# Altium schematic symbol library ICs-uC.SchLib: 14 symbols
Pins are listed as number, name and electrical type; pins without a type are passive.

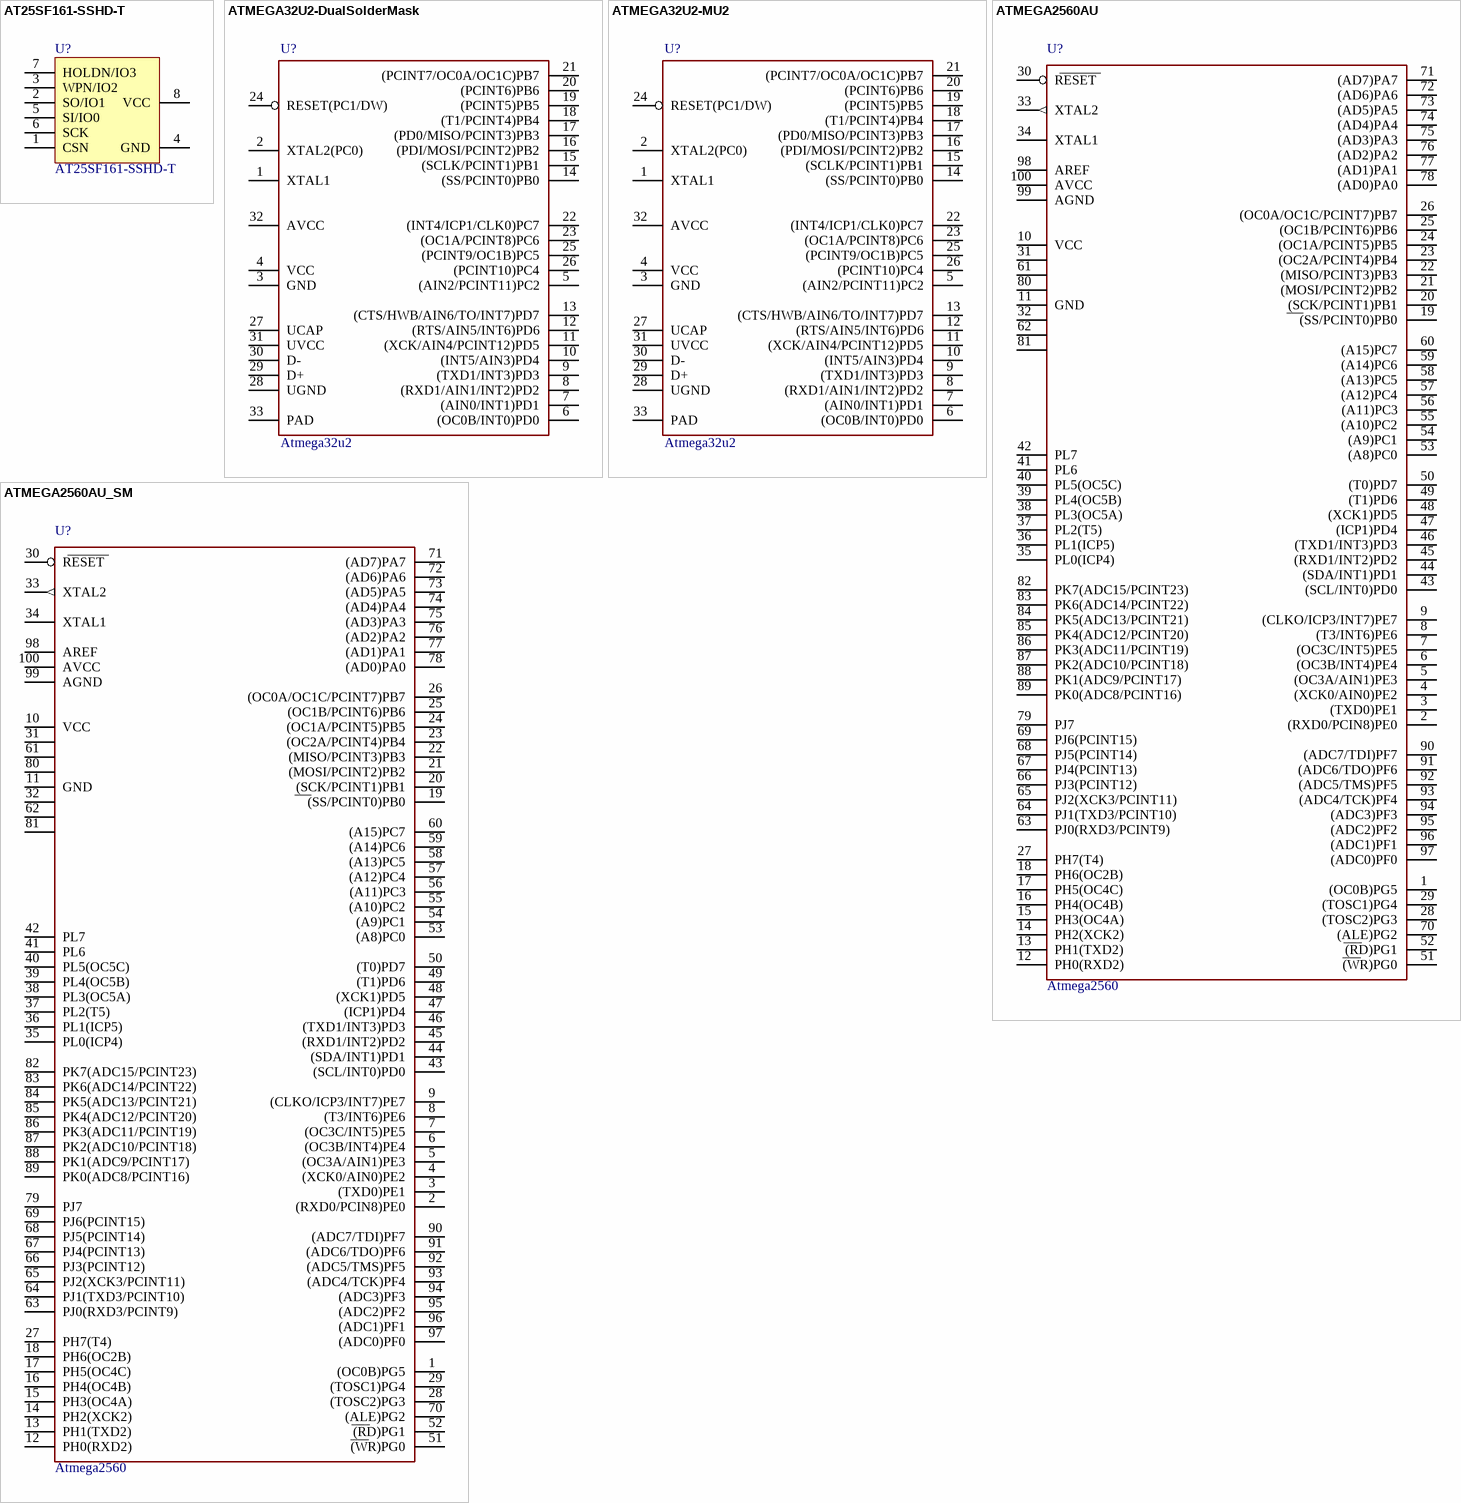
[diagram p0: symbols AT25SF161-SSHD-T to ATMEGA2560AU_SM]

## AT25SF161-SSHD-T
designator U?
IC FLASH 16M SPI 104MHZ 8SOIC; MANUFACTURER: Adesto; TOLERANCE: -NA-; VALUE: 16Mb; EE_SPEC: 3.3V; MANUFACTURER #: AT25SF161-SSHD-T; PART DESCRIPTION: IC FLASH 16M SPI 104MHZ 8SOIC
footprint S25FL216K0PMFI041 (SOIC, 8-Leads, Body 4.90x3.90mm, Pitch 1.27mm, IPC Medium Density)
pins: 1 CSN, 2 SO/IO1, 3 WPN/IO2, 4 GND, 5 SI/IO0, 6 SCK, 7 HOLDN/IO3, 8 VCC

## ATMEGA32U2-DualSolderMask
designator U?, comment Atmega32u2
Manufacturer: Microchip; MANUFACTURER #: ATMEGA32U2-MUR; Part Description: AVR AVR® ATmega Microcontroller IC 8-Bit 16MHz 32KB (16K x 16) FLASH 32-VQFN (5x5); EE_SPEC: 5V 32KB 1KB; Tolerance: NA; DISTRIBUTOR #: ATMEGA32U2-MURTR-ND; DISTRIBUTOR: Digi-Key; PART: ATMEGA32U2; VALUE: ATMEGA32U2
footprint QFN32_DualSolderMask
pins: 1 XTAL1, 2 XTAL2(PC0), 3 GND (power), 4 VCC (power), 5 (AIN2/PCINT11)PC2, 6 (OC0B/INT0)PD0, 7 (AIN0/INT1)PD1, 8 (RXD1/AIN1/INT2)PD2, 9 (TXD1/INT3)PD3, 10 (INT5/AIN3)PD4, 11 (XCK/AIN4/PCINT12)PD5, 12 (RTS/AIN5/INT6)PD6, 13 (CTS/HWB/AIN6/TO/INT7)PD7, 14 (SS/PCINT0)PB0, 15 (SCLK/PCINT1)PB1, 16 (PDI/MOSI/PCINT2)PB2, 17 (PD0/MISO/PCINT3)PB3, 18 (T1/PCINT4)PB4, 19 (PCINT5)PB5, 20 (PCINT6)PB6, 21 (PCINT7/OC0A/OC1C)PB7, 22 (INT4/ICP1/CLK0)PC7, 23 (OC1A/PCINT8)PC6, 24 RESET(PC1/DW), 25 (PCINT9/OC1B)PC5, 26 (PCINT10)PC4, 27 UCAP, 28 UGND (power), 29 D+, 30 D-, 31 UVCC (power), 32 AVCC (power), 33 PAD (power)

## ATMEGA32U2-MU2
designator U?, comment Atmega32u2
Manufacturer: Microchip; MANUFACTURER #: ATMEGA32U2-MUR; Part Description: AVR AVR® ATmega Microcontroller IC 8-Bit 16MHz 32KB (16K x 16) FLASH 32-VQFN (5x5); EE_SPEC: 5V 32KB 1KB; Tolerance: NA; DISTRIBUTOR #: ATMEGA32U2-MURTR-ND; DISTRIBUTOR: Digi-Key; PART: ATMEGA32U2; VALUE: ATMEGA32U2
footprint QFN32_050050
pins: 1 XTAL1, 2 XTAL2(PC0), 3 GND (power), 4 VCC (power), 5 (AIN2/PCINT11)PC2, 6 (OC0B/INT0)PD0, 7 (AIN0/INT1)PD1, 8 (RXD1/AIN1/INT2)PD2, 9 (TXD1/INT3)PD3, 10 (INT5/AIN3)PD4, 11 (XCK/AIN4/PCINT12)PD5, 12 (RTS/AIN5/INT6)PD6, 13 (CTS/HWB/AIN6/TO/INT7)PD7, 14 (SS/PCINT0)PB0, 15 (SCLK/PCINT1)PB1, 16 (PDI/MOSI/PCINT2)PB2, 17 (PD0/MISO/PCINT3)PB3, 18 (T1/PCINT4)PB4, 19 (PCINT5)PB5, 20 (PCINT6)PB6, 21 (PCINT7/OC0A/OC1C)PB7, 22 (INT4/ICP1/CLK0)PC7, 23 (OC1A/PCINT8)PC6, 24 RESET(PC1/DW), 25 (PCINT9/OC1B)PC5, 26 (PCINT10)PC4, 27 UCAP, 28 UGND (power), 29 D+, 30 D-, 31 UVCC (power), 32 AVCC (power), 33 PAD (power)

## ATMEGA2560AU
designator U?, comment Atmega2560
Manufacturer: Microchip; MANUFACTURER #: ATMEGA2560-16AUR; Part Description: AVR AVR® ATmega Microcontroller IC 8-Bit 16MHz 256KB (128K x 16) FLASH 100-TQFP (14x14); EE_SPEC: 5V 256KB 8KB 16MHz; Tolerance: NA; DISTRIBUTOR #: ATMEGA2560-16AURTR-ND; DISTRIBUTOR: Digi-Key; PART: ATMEGA2560; VALUE: ATMEGA2560
footprint TQFP100_140140_012
pins: 1 (OC0B)PG5, 2 (RXD0/PCIN8)PE0, 3 (TXD0)PE1, 4 (XCK0/AIN0)PE2, 5 (OC3A/AIN1)PE3, 6 (OC3B/INT4)PE4, 7 (OC3C/INT5)PE5, 8 (T3/INT6)PE6, 9 (CLKO/ICP3/INT7)PE7, 10 VCC (power), 11 GND (power), 12 PH0(RXD2), 13 PH1(TXD2), 14 PH2(XCK2), 15 PH3(OC4A), 16 PH4(OC4B), 17 PH5(OC4C), 18 PH6(OC2B), 19 (SS/PCINT0)PB0, 20 (SCK/PCINT1)PB1, 21 (MOSI/PCINT2)PB2, 22 (MISO/PCINT3)PB3, 23 (OC2A/PCINT4)PB4, 24 (OC1A/PCINT5)PB5, 25 (OC1B/PCINT6)PB6, 26 (OC0A/OC1C/PCINT7)PB7, 27 PH7(T4), 28 (TOSC2)PG3, 29 (TOSC1)PG4, 30 RESET, 31 VCC1 (power), 32 GND1 (power), 33 XTAL2 (out), 34 XTAL1, 35 PL0(ICP4), 36 PL1(ICP5), 37 PL2(T5), 38 PL3(OC5A), 39 PL4(OC5B), 40 PL5(OC5C), 41 PL6, 42 PL7, 43 (SCL/INT0)PD0, 44 (SDA/INT1)PD1, 45 (RXD1/INT2)PD2, 46 (TXD1/INT3)PD3, 47 (ICP1)PD4, 48 (XCK1)PD5, 49 (T1)PD6, 50 (T0)PD7, 51 (WR)PG0, 52 (RD)PG1, 53 (A8)PC0, 54 (A9)PC1, 55 (A10)PC2, 56 (A11)PC3, 57 (A12)PC4, 58 (A13)PC5, 59 (A14)PC6, 60 (A15)PC7, 61 VCC2 (power), 62 GND2 (power), 63 PJ0(RXD3/PCINT9), 64 PJ1(TXD3/PCINT10), 65 PJ2(XCK3/PCINT11), 66 PJ3(PCINT12), 67 PJ4(PCINT13), 68 PJ5(PCINT14), 69 PJ6(PCINT15), 70 (ALE)PG2, 71 (AD7)PA7, 72 (AD6)PA6, 73 (AD5)PA5, 74 (AD4)PA4, 75 (AD3)PA3, 76 (AD2)PA2, 77 (AD1)PA1, 78 (AD0)PA0, 79 PJ7, 80 VCC3 (power), 81 GND3 (power), 82 PK7(ADC15/PCINT23), 83 PK6(ADC14/PCINT22), 84 PK5(ADC13/PCINT21), 85 PK4(ADC12/PCINT20), 86 PK3(ADC11/PCINT19), 87 PK2(ADC10/PCINT18), 88 PK1(ADC9/PCINT17), 89 PK0(ADC8/PCINT16), 90 (ADC7/TDI)PF7, 91 (ADC6/TDO)PF6, 92 (ADC5/TMS)PF5, 93 (ADC4/TCK)PF4, 94 (ADC3)PF3, 95 (ADC2)PF2, 96 (ADC1)PF1, 97 (ADC0)PF0, 98 AREF, 99 AGND (power), 100 AVCC (power)

## ATMEGA2560AU_SM
designator U?, comment Atmega2560
Manufacturer: Microchip; MANUFACTURER #: ATMEGA2560-16AUR; Part Description: AVR AVR® ATmega Microcontroller IC 8-Bit 16MHz 256KB (128K x 16) FLASH 100-TQFP (14x14); EE_SPEC: 5V 256KB 8KB 16MHz; Tolerance: NA; DISTRIBUTOR #: ATMEGA2560-16AURTR-ND; DISTRIBUTOR: Digi-Key; PART: ATMEGA2560; VALUE: ATMEGA2560
footprint TSQFP50P1600X1600X120-100L (TSQFP, 100-Leads, Body 14.00x14.00mm, Pitch 0.50mm, IPC High Density)
pins: 1 (OC0B)PG5, 2 (RXD0/PCIN8)PE0, 3 (TXD0)PE1, 4 (XCK0/AIN0)PE2, 5 (OC3A/AIN1)PE3, 6 (OC3B/INT4)PE4, 7 (OC3C/INT5)PE5, 8 (T3/INT6)PE6, 9 (CLKO/ICP3/INT7)PE7, 10 VCC (power), 11 GND (power), 12 PH0(RXD2), 13 PH1(TXD2), 14 PH2(XCK2), 15 PH3(OC4A), 16 PH4(OC4B), 17 PH5(OC4C), 18 PH6(OC2B), 19 (SS/PCINT0)PB0, 20 (SCK/PCINT1)PB1, 21 (MOSI/PCINT2)PB2, 22 (MISO/PCINT3)PB3, 23 (OC2A/PCINT4)PB4, 24 (OC1A/PCINT5)PB5, 25 (OC1B/PCINT6)PB6, 26 (OC0A/OC1C/PCINT7)PB7, 27 PH7(T4), 28 (TOSC2)PG3, 29 (TOSC1)PG4, 30 RESET, 31 VCC1 (power), 32 GND1 (power), 33 XTAL2 (out), 34 XTAL1, 35 PL0(ICP4), 36 PL1(ICP5), 37 PL2(T5), 38 PL3(OC5A), 39 PL4(OC5B), 40 PL5(OC5C), 41 PL6, 42 PL7, 43 (SCL/INT0)PD0, 44 (SDA/INT1)PD1, 45 (RXD1/INT2)PD2, 46 (TXD1/INT3)PD3, 47 (ICP1)PD4, 48 (XCK1)PD5, 49 (T1)PD6, 50 (T0)PD7, 51 (WR)PG0, 52 (RD)PG1, 53 (A8)PC0, 54 (A9)PC1, 55 (A10)PC2, 56 (A11)PC3, 57 (A12)PC4, 58 (A13)PC5, 59 (A14)PC6, 60 (A15)PC7, 61 VCC2 (power), 62 GND2 (power), 63 PJ0(RXD3/PCINT9), 64 PJ1(TXD3/PCINT10), 65 PJ2(XCK3/PCINT11), 66 PJ3(PCINT12), 67 PJ4(PCINT13), 68 PJ5(PCINT14), 69 PJ6(PCINT15), 70 (ALE)PG2, 71 (AD7)PA7, 72 (AD6)PA6, 73 (AD5)PA5, 74 (AD4)PA4, 75 (AD3)PA3, 76 (AD2)PA2, 77 (AD1)PA1, 78 (AD0)PA0, 79 PJ7, 80 VCC3 (power), 81 GND3 (power), 82 PK7(ADC15/PCINT23), 83 PK6(ADC14/PCINT22), 84 PK5(ADC13/PCINT21), 85 PK4(ADC12/PCINT20), 86 PK3(ADC11/PCINT19), 87 PK2(ADC10/PCINT18), 88 PK1(ADC9/PCINT17), 89 PK0(ADC8/PCINT16), 90 (ADC7/TDI)PF7, 91 (ADC6/TDO)PF6, 92 (ADC5/TMS)PF5, 93 (ADC4/TCK)PF4, 94 (ADC3)PF3, 95 (ADC2)PF2, 96 (ADC1)PF1, 97 (ADC0)PF0, 98 AREF, 99 AGND (power), 100 AVCC (power)

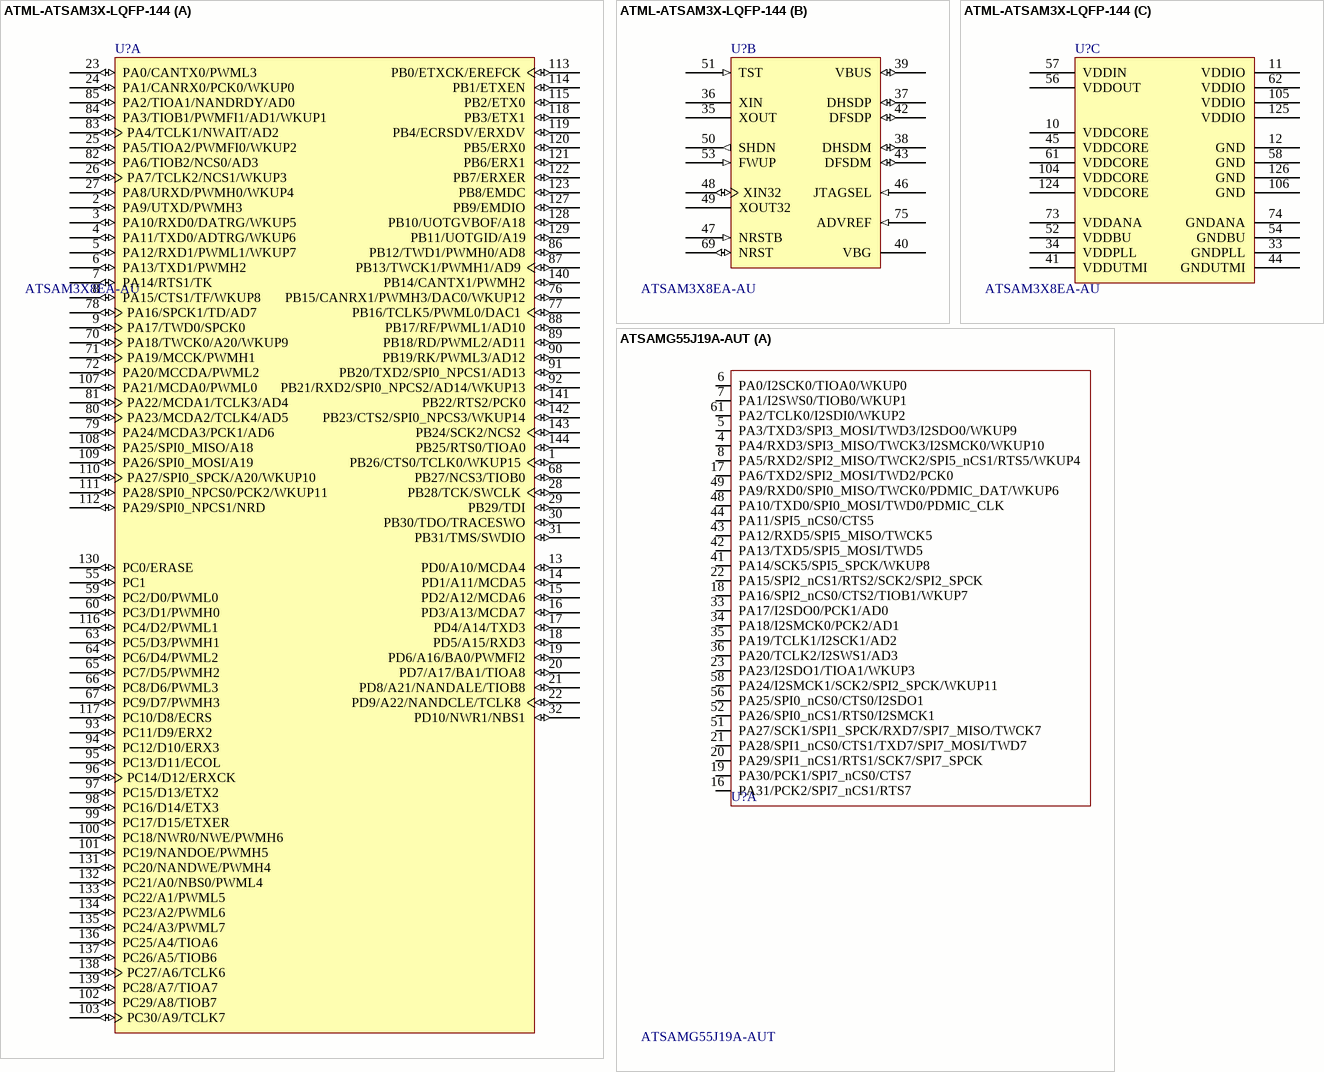
[diagram p1: symbols ATML-ATSAM3X-LQFP-144 to ATSAMG55J19A-AUT]

## ATML-ATSAM3X-LQFP-144
designator U?, comment ATSAM3X8EA-AU
Atmel; PART: IC MCU 32BIT 512KB FLASH 144LQFP; PART DESCRIPTION: ARM® Cortex®-M3 SAM3X Microcontroller IC 32-Bit 84MHz 512KB (512K x 8) FLASH 144-LQFP (20x20); TOLERANCE: -NA-; VALUE: -NA-; EE_SPEC: 3.3V; MANUFACTURER #: ATSAM3X8EA-AU; MANUFACTURER: Atmel; DISTRIBUTOR #: ATSAM3X8EA-AU-ND; DISTRIBUTOR: Digikey
footprint LQFP144_N (Thin QFP, 144-Leads, Body 20x20mm, Pitch 0.5mm, IPC Medium Density)
part A pins: 1 PB26/CTS0/TCLK0/WKUP15 (io), 2 PA9/UTXD/PWMH3 (io), 3 PA10/RXD0/DATRG/WKUP5 (io), 4 PA11/TXD0/ADTRG/WKUP6 (io), 5 PA12/RXD1/PWML1/WKUP7 (io), 6 PA13/TXD1/PWMH2 (io), 7 PA14/RTS1/TK (io), 8 PA15/CTS1/TF/WKUP8 (io), 9 PA17/TWD0/SPCK0 (io), 13 PD0/A10/MCDA4 (io), 14 PD1/A11/MCDA5 (io), 15 PD2/A12/MCDA6 (io), 16 PD3/A13/MCDA7 (io), 17 PD4/A14/TXD3 (io), 18 PD5/A15/RXD3 (io), 19 PD6/A16/BA0/PWMFI2 (io), 20 PD7/A17/BA1/TIOA8 (io), 21 PD8/A21/NANDALE/TIOB8 (io), 22 PD9/A22/NANDCLE/TCLK8 (io), 23 PA0/CANTX0/PWML3 (io), 24 PA1/CANRX0/PCK0/WKUP0 (io), 25 PA5/TIOA2/PWMFI0/WKUP2 (io), 26 PA7/TCLK2/NCS1/WKUP3 (io), 27 PA8/URXD/PWMH0/WKUP4 (io), 28 PB28/TCK/SWCLK (io), 29 PB29/TDI (io), 30 PB30/TDO/TRACESWO (io), 31 PB31/TMS/SWDIO (io), 32 PD10/NWR1/NBS1 (io), 55 PC1 (io), 59 PC2/D0/PWML0 (io), 60 PC3/D1/PWMH0 (io), 63 PC5/D3/PWMH1 (io), 64 PC6/D4/PWML2 (io), 65 PC7/D5/PWMH2 (io), 66 PC8/D6/PWML3 (io), 67 PC9/D7/PWMH3 (io), 68 PB27/NCS3/TIOB0 (io), 70 PA18/TWCK0/A20/WKUP9 (io), 71 PA19/MCCK/PWMH1 (io), 72 PA20/MCCDA/PWML2 (io), 76 PB15/CANRX1/PWMH3/DAC0/WKUP12 (io), 77 PB16/TCLK5/PWML0/DAC1 (io), 78 PA16/SPCK1/TD/AD7 (io), 79 PA24/MCDA3/PCK1/AD6 (io), 80 PA23/MCDA2/TCLK4/AD5 (io), 81 PA22/MCDA1/TCLK3/AD4 (io), 82 PA6/TIOB2/NCS0/AD3 (io), 83 PA4/TCLK1/NWAIT/AD2 (io), 84 PA3/TIOB1/PWMFI1/AD1/WKUP1 (io), 85 PA2/TIOA1/NANDRDY/AD0 (io), 86 PB12/TWD1/PWMH0/AD8 (io), 87 PB13/TWCK1/PWMH1/AD9 (io), 88 PB17/RF/PWML1/AD10 (io), 89 PB18/RD/PWML2/AD11 (io), 90 PB19/RK/PWML3/AD12 (io), 91 PB20/TXD2/SPI0_NPCS1/AD13 (io), 92 PB21/RXD2/SPI0_NPCS2/AD14/WKUP13 (io), 93 PC11/D9/ERX2 (io), 94 PC12/D10/ERX3 (io), 95 PC13/D11/ECOL (io), 96 PC14/D12/ERXCK (io), 97 PC15/D13/ETX2 (io), 98 PC16/D14/ETX3 (io), 99 PC17/D15/ETXER (io), 100 PC18/NWR0/NWE/PWMH6 (io), 101 PC19/NANDOE/PWMH5 (io), 102 PC29/A8/TIOB7 (io), 103 PC30/A9/TCLK7 (io), 107 PA21/MCDA0/PWML0 (io), 108 PA25/SPI0_MISO/A18 (io), 109 PA26/SPI0_MOSI/A19 (io), 110 PA27/SPI0_SPCK/A20/WKUP10 (io), 111 PA28/SPI0_NPCS0/PCK2/WKUP11 (io), 112 PA29/SPI0_NPCS1/NRD (io), 113 PB0/ETXCK/EREFCK (io), 114 PB1/ETXEN (io), 115 PB2/ETX0 (io), 116 PC4/D2/PWML1 (io), 117 PC10/D8/ECRS (io), 118 PB3/ETX1 (io), 119 PB4/ECRSDV/ERXDV (io), 120 PB5/ERX0 (io), 121 PB6/ERX1 (io), 122 PB7/ERXER (io), 123 PB8/EMDC (io), 127 PB9/EMDIO (io), 128 PB10/UOTGVBOF/A18 (io), 129 PB11/UOTGID/A19 (io), 130 PC0/ERASE (io), 131 PC20/NANDWE/PWMH4 (io), 132 PC21/A0/NBS0/PWML4 (io), 133 PC22/A1/PWML5 (io), 134 PC23/A2/PWML6 (io), 135 PC24/A3/PWML7 (io), 136 PC25/A4/TIOA6 (io), 137 PC26/A5/TIOB6 (io), 138 PC27/A6/TCLK6 (io), 139 PC28/A7/TIOA7 (io), 140 PB14/CANTX1/PWMH2 (io), 141 PB22/RTS2/PCK0 (io), 142 PB23/CTS2/SPI0_NPCS3/WKUP14 (io), 143 PB24/SCK2/NCS2 (io), 144 PB25/RTS0/TIOA0 (io)
part B pins: 35 XOUT "Main Oscillator Output", 36 XIN "Main Oscillator Input", 37 DHSDP (io) "USB High Speed Data +", 38 DHSDM (io) "USB High Speed Data -", 39 VBUS (io) "USB Bus Power Measurement Mini Host/Device", 40 VBG "Bias Voltage Reference", 42 DFSDP (io) "USB Full Speed Data +", 43 DFSDM (io) "USB Full Speed Data -", 46 JTAGSEL (in) "JTAG Selection", 47 NRSTB (in) "Asynchronous Microcontroller Reset", 48 XIN32 (io) "Slow Clock Oscillator Input", 49 XOUT32 "Slow Clock Oscillator Output", 50 SHDN (out) "Shut-Down Control", 51 TST (in) "Test Mode Select", 53 FWUP (in) "Force Wake-up Input", 69 NRST (io) "Microcontroller Reset", 75 ADVREF (in) "ADC and DAC Reference"
part C pins: 10 VDDCORE (power) "Core Chip Power Supply", 11 VDDIO (power) "Peripherals I/O Lines Power Supply", 12 GND (power) "Ground", 33 GNDPLL (power) "PLL A, UPLL and Oscillator Ground", 34 VDDPLL (power) "PLL A, UPLL and Oscillator Power Supply", 41 VDDUTMI (power) "USB UTMI+ Interface Power Supply", 44 GNDUTMI (power) "USB UTMI+ Interface Ground", 45 VDDCORE (power) "Core Chip Power Supply", 52 VDDBU (power) "Backup I/O Lines Power Supply", 54 GNDBU (power) "Backup Ground", 56 VDDOUT (power) "Voltage Regulator Output", 57 VDDIN (power) "Voltage Regulator, ADC and DAC Power", 58 GND (power) "Ground", 61 VDDCORE (power) "Core Chip Power Supply", 62 VDDIO (power) "Peripherals I/O Lines Power Supply", 73 VDDANA (power) "ADC and DAC Analog Power Supply", 74 GNDANA (power) "ADC and DAC Analog Ground", 104 VDDCORE (power) "Core Chip Power Supply", 105 VDDIO (power) "Peripherals I/O Lines Power Supply", 106 GND (power) "Ground", 124 VDDCORE (power) "Core Chip Power Supply", 125 VDDIO (power) "Peripherals I/O Lines Power Supply", 126 GND (power) "Ground"

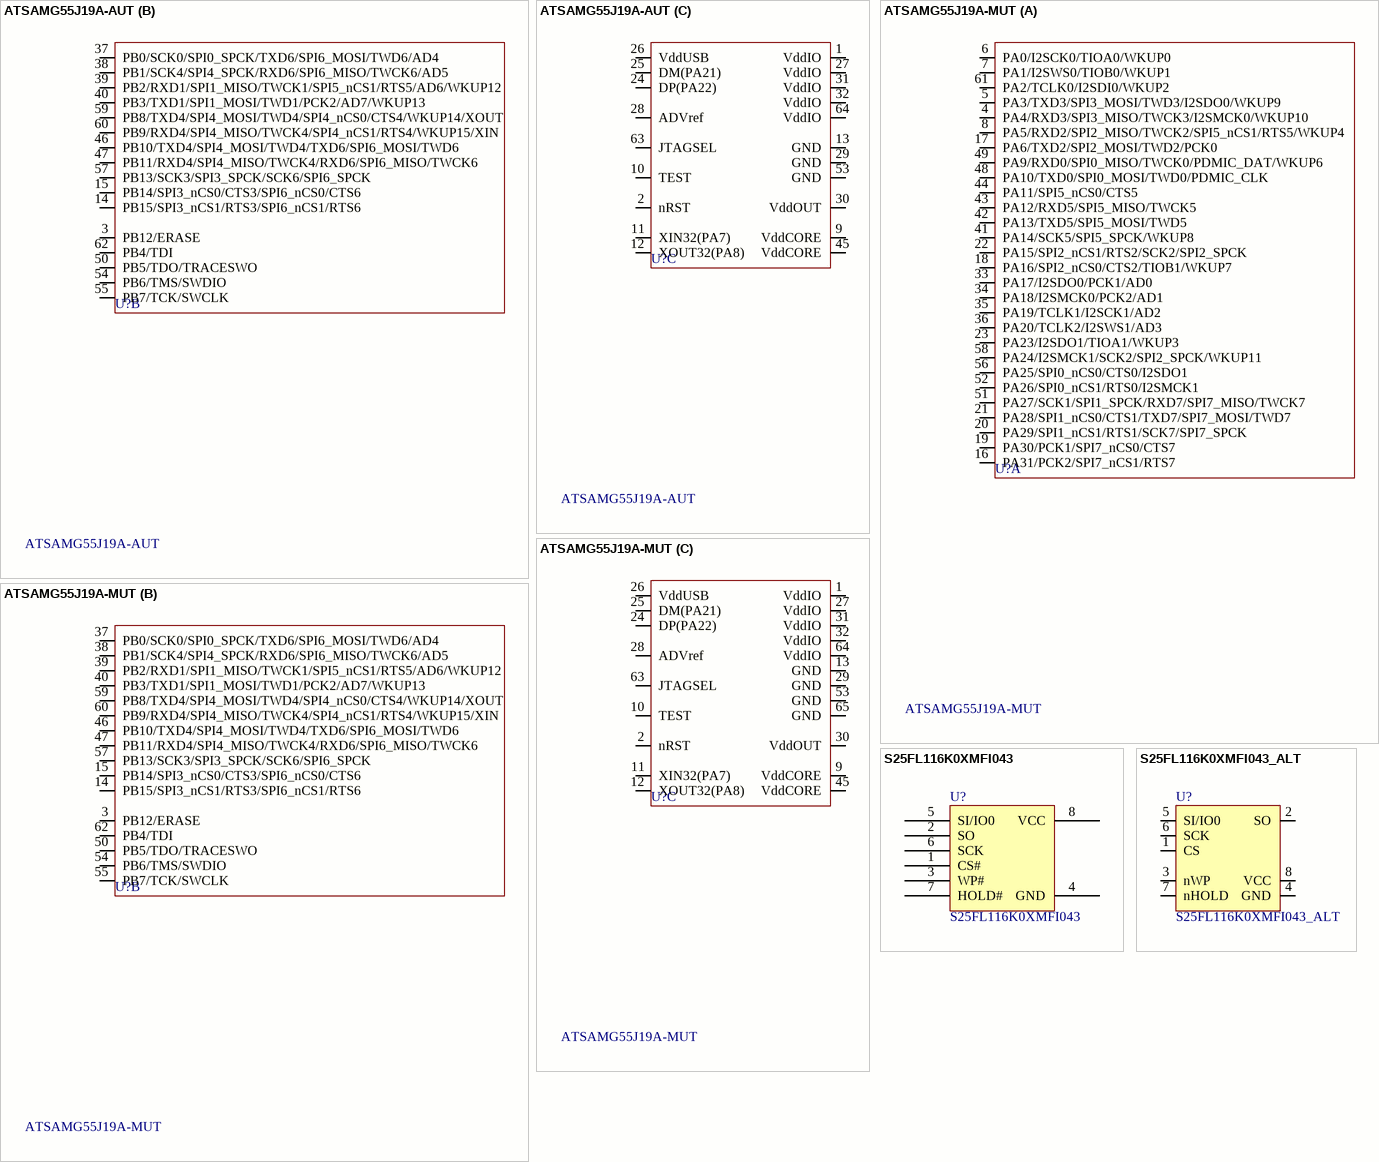
[diagram p2: symbols ATSAMG55J19A-AUT to S25FL116K0XMFI043_ALT]

## ATSAMG55J19A-AUT
designator U?
IC MCU 32BIT 512KB FLASH 64LQFP; MANUFACTURER: Atmel; PART DESCRIPTION: ARM® Cortex®-M4 SAM G55 Microcontroller IC 32-Bit 120MHz 512KB (512K x 8) FLASH; TOLERANCE: -NA-; VALUE: -NA-; EE_SPEC: 3.3V; MANUFACTURER #: ATSAMG55J19A-AUT; DISTRIBUTOR #: ATSAMG55J19A-AUTTR-ND; DISTRIBUTOR: Digikey; PART: ATSAMG55J19A-AUT
footprint LQFP64 (TSQFP, 64-Leads, Body 10.00x10.00mm, Pitch 0.50mm, IPC High Density)
part A pins: 4 PA4/RXD3/SPI3_MISO/TWCK3/I2SMCK0/WKUP10, 5 PA3/TXD3/SPI3_MOSI/TWD3/I2SDO0/WKUP9, 6 PA0/I2SCK0/TIOA0/WKUP0, 7 PA1/I2SWS0/TIOB0/WKUP1, 8 PA5/RXD2/SPI2_MISO/TWCK2/SPI5_nCS1/RTS5/WKUP4, 16 PA31/PCK2/SPI7_nCS1/RTS7, 17 PA6/TXD2/SPI2_MOSI/TWD2/PCK0, 18 PA16/SPI2_nCS0/CTS2/TIOB1/WKUP7, 19 PA30/PCK1/SPI7_nCS0/CTS7, 20 PA29/SPI1_nCS1/RTS1/SCK7/SPI7_SPCK, 21 PA28/SPI1_nCS0/CTS1/TXD7/SPI7_MOSI/TWD7, 22 PA15/SPI2_nCS1/RTS2/SCK2/SPI2_SPCK, 23 PA23/I2SDO1/TIOA1/WKUP3, 33 PA17/I2SDO0/PCK1/AD0, 34 PA18/I2SMCK0/PCK2/AD1, 35 PA19/TCLK1/I2SCK1/AD2, 36 PA20/TCLK2/I2SWS1/AD3, 41 PA14/SCK5/SPI5_SPCK/WKUP8, 42 PA13/TXD5/SPI5_MOSI/TWD5, 43 PA12/RXD5/SPI5_MISO/TWCK5, 44 PA11/SPI5_nCS0/CTS5, 48 PA10/TXD0/SPI0_MOSI/TWD0/PDMIC_CLK, 49 PA9/RXD0/SPI0_MISO/TWCK0/PDMIC_DAT/WKUP6, 51 PA27/SCK1/SPI1_SPCK/RXD7/SPI7_MISO/TWCK7, 52 PA26/SPI0_nCS1/RTS0/I2SMCK1, 56 PA25/SPI0_nCS0/CTS0/I2SDO1, 58 PA24/I2SMCK1/SCK2/SPI2_SPCK/WKUP11, 61 PA2/TCLK0/I2SDI0/WKUP2
part B pins: 3 PB12/ERASE, 14 PB15/SPI3_nCS1/RTS3/SPI6_nCS1/RTS6, 15 PB14/SPI3_nCS0/CTS3/SPI6_nCS0/CTS6, 37 PB0/SCK0/SPI0_SPCK/TXD6/SPI6_MOSI/TWD6/AD4, 38 PB1/SCK4/SPI4_SPCK/RXD6/SPI6_MISO/TWCK6/AD5, 39 PB2/RXD1/SPI1_MISO/TWCK1/SPI5_nCS1/RTS5/AD6/WKUP12, 40 PB3/TXD1/SPI1_MOSI/TWD1/PCK2/AD7/WKUP13, 46 PB10/TXD4/SPI4_MOSI/TWD4/TXD6/SPI6_MOSI/TWD6, 47 PB11/RXD4/SPI4_MISO/TWCK4/RXD6/SPI6_MISO/TWCK6, 50 PB5/TDO/TRACESWO, 54 PB6/TMS/SWDIO, 55 PB7/TCK/SWCLK, 57 PB13/SCK3/SPI3_SPCK/SCK6/SPI6_SPCK, 59 PB8/TXD4/SPI4_MOSI/TWD4/SPI4_nCS0/CTS4/WKUP14/XOUT, 60 PB9/RXD4/SPI4_MISO/TWCK4/SPI4_nCS1/RTS4/WKUP15/XIN, 62 PB4/TDI
part C pins: 1 VddIO, 2 nRST, 9 VddCORE, 10 TEST, 11 XIN32(PA7), 12 XOUT32(PA8), 13 GND, 24 DP(PA22), 25 DM(PA21), 26 VddUSB, 27 VddIO, 28 ADVref, 29 GND, 30 VddOUT, 31 VddIO, 32 VddIO, 45 VddCORE, 53 GND, 63 JTAGSEL, 64 VddIO

## ATSAMG55J19A-MUT
designator U?
IC MCU 32BIT 512KB FLASH 64QFN; MANUFACTURER: Atmel; PART DESCRIPTION: ARM® Cortex®-M4 SAM G55 Microcontroller IC 32-Bit 120MHz 512KB (512K x 8) FLASH 64-QFN (7.5x7.5); TOLERANCE: -NA-; VALUE: -NA-; EE_SPEC: 3.3V; MANUFACTURER #: ATSAMG55J19A-MUT; DISTRIBUTOR #: ATSAMG55J19A-MUT-ND; DISTRIBUTOR: Digikey; PART: ATSAMG55J19A-MUT
footprint QFN64_7.5x7.5mm
part A pins: 4 PA4/RXD3/SPI3_MISO/TWCK3/I2SMCK0/WKUP10, 5 PA3/TXD3/SPI3_MOSI/TWD3/I2SDO0/WKUP9, 6 PA0/I2SCK0/TIOA0/WKUP0, 7 PA1/I2SWS0/TIOB0/WKUP1, 8 PA5/RXD2/SPI2_MISO/TWCK2/SPI5_nCS1/RTS5/WKUP4, 16 PA31/PCK2/SPI7_nCS1/RTS7, 17 PA6/TXD2/SPI2_MOSI/TWD2/PCK0, 18 PA16/SPI2_nCS0/CTS2/TIOB1/WKUP7, 19 PA30/PCK1/SPI7_nCS0/CTS7, 20 PA29/SPI1_nCS1/RTS1/SCK7/SPI7_SPCK, 21 PA28/SPI1_nCS0/CTS1/TXD7/SPI7_MOSI/TWD7, 22 PA15/SPI2_nCS1/RTS2/SCK2/SPI2_SPCK, 23 PA23/I2SDO1/TIOA1/WKUP3, 33 PA17/I2SDO0/PCK1/AD0, 34 PA18/I2SMCK0/PCK2/AD1, 35 PA19/TCLK1/I2SCK1/AD2, 36 PA20/TCLK2/I2SWS1/AD3, 41 PA14/SCK5/SPI5_SPCK/WKUP8, 42 PA13/TXD5/SPI5_MOSI/TWD5, 43 PA12/RXD5/SPI5_MISO/TWCK5, 44 PA11/SPI5_nCS0/CTS5, 48 PA10/TXD0/SPI0_MOSI/TWD0/PDMIC_CLK, 49 PA9/RXD0/SPI0_MISO/TWCK0/PDMIC_DAT/WKUP6, 51 PA27/SCK1/SPI1_SPCK/RXD7/SPI7_MISO/TWCK7, 52 PA26/SPI0_nCS1/RTS0/I2SMCK1, 56 PA25/SPI0_nCS0/CTS0/I2SDO1, 58 PA24/I2SMCK1/SCK2/SPI2_SPCK/WKUP11, 61 PA2/TCLK0/I2SDI0/WKUP2
part B pins: 3 PB12/ERASE, 14 PB15/SPI3_nCS1/RTS3/SPI6_nCS1/RTS6, 15 PB14/SPI3_nCS0/CTS3/SPI6_nCS0/CTS6, 37 PB0/SCK0/SPI0_SPCK/TXD6/SPI6_MOSI/TWD6/AD4, 38 PB1/SCK4/SPI4_SPCK/RXD6/SPI6_MISO/TWCK6/AD5, 39 PB2/RXD1/SPI1_MISO/TWCK1/SPI5_nCS1/RTS5/AD6/WKUP12, 40 PB3/TXD1/SPI1_MOSI/TWD1/PCK2/AD7/WKUP13, 46 PB10/TXD4/SPI4_MOSI/TWD4/TXD6/SPI6_MOSI/TWD6, 47 PB11/RXD4/SPI4_MISO/TWCK4/RXD6/SPI6_MISO/TWCK6, 50 PB5/TDO/TRACESWO, 54 PB6/TMS/SWDIO, 55 PB7/TCK/SWCLK, 57 PB13/SCK3/SPI3_SPCK/SCK6/SPI6_SPCK, 59 PB8/TXD4/SPI4_MOSI/TWD4/SPI4_nCS0/CTS4/WKUP14/XOUT, 60 PB9/RXD4/SPI4_MISO/TWCK4/SPI4_nCS1/RTS4/WKUP15/XIN, 62 PB4/TDI
part C pins: 1 VddIO, 2 nRST, 9 VddCORE, 10 TEST, 11 XIN32(PA7), 12 XOUT32(PA8), 13 GND, 24 DP(PA22), 25 DM(PA21), 26 VddUSB, 27 VddIO, 28 ADVref, 29 GND, 30 VddOUT, 31 VddIO, 32 VddIO, 45 VddCORE, 53 GND, 63 JTAGSEL, 64 VddIO, 65 GND

## S25FL116K0XMFI043
designator U?
Flash Memory 16Mb, 3V, 108Mhz CMOS SPI Flash; MANUFACTURER: Cypress; PART: Memory NOR Flash 16Mb; TOLERANCE: -NA-; EE_SPEC: 3.3V; MANUFACTURER #: S25FL116K0XMFI043; DISTRIBUTOR #: 797-25FL116K0XMFI043; DISTRIBUTOR: Mouser; PART DESCRIPTION: Flash Memory 16Mb, 3V, 108Mhz CMOS SPI Flash; VALUE: 16Mb
footprint S25FL216K0PMFI041 (SOIC, 8-Leads, Body 4.90x3.90mm, Pitch 1.27mm, IPC Medium Density)
pins: 1 CS#, 2 SO, 3 WP#, 4 GND, 5 SI/IO0, 6 SCK, 7 HOLD#, 8 VCC

## S25FL116K0XMFI043_ALT
designator U?
Flash Memory 16Mb, 3V, 108Mhz CMOS SPI Flash; MANUFACTURER: Cypress; PART: Memory NOR Flash 16Mb; TOLERANCE: -NA-; EE_SPEC: 3.3V; MANUFACTURER #: S25FL116K0XMFI043; DISTRIBUTOR #: 797-25FL116K0XMFI043; DISTRIBUTOR: Mouser; PART DESCRIPTION: Flash Memory 16Mb, 3V, 108Mhz CMOS SPI Flash; VALUE: 16Mb
footprint S25FL216K0PMFI041 (SOIC, 8-Leads, Body 4.90x3.90mm, Pitch 1.27mm, IPC Medium Density)
pins: 1 CS, 2 SO, 3 nWP, 4 GND, 5 SI/IO0, 6 SCK, 7 nHOLD, 8 VCC

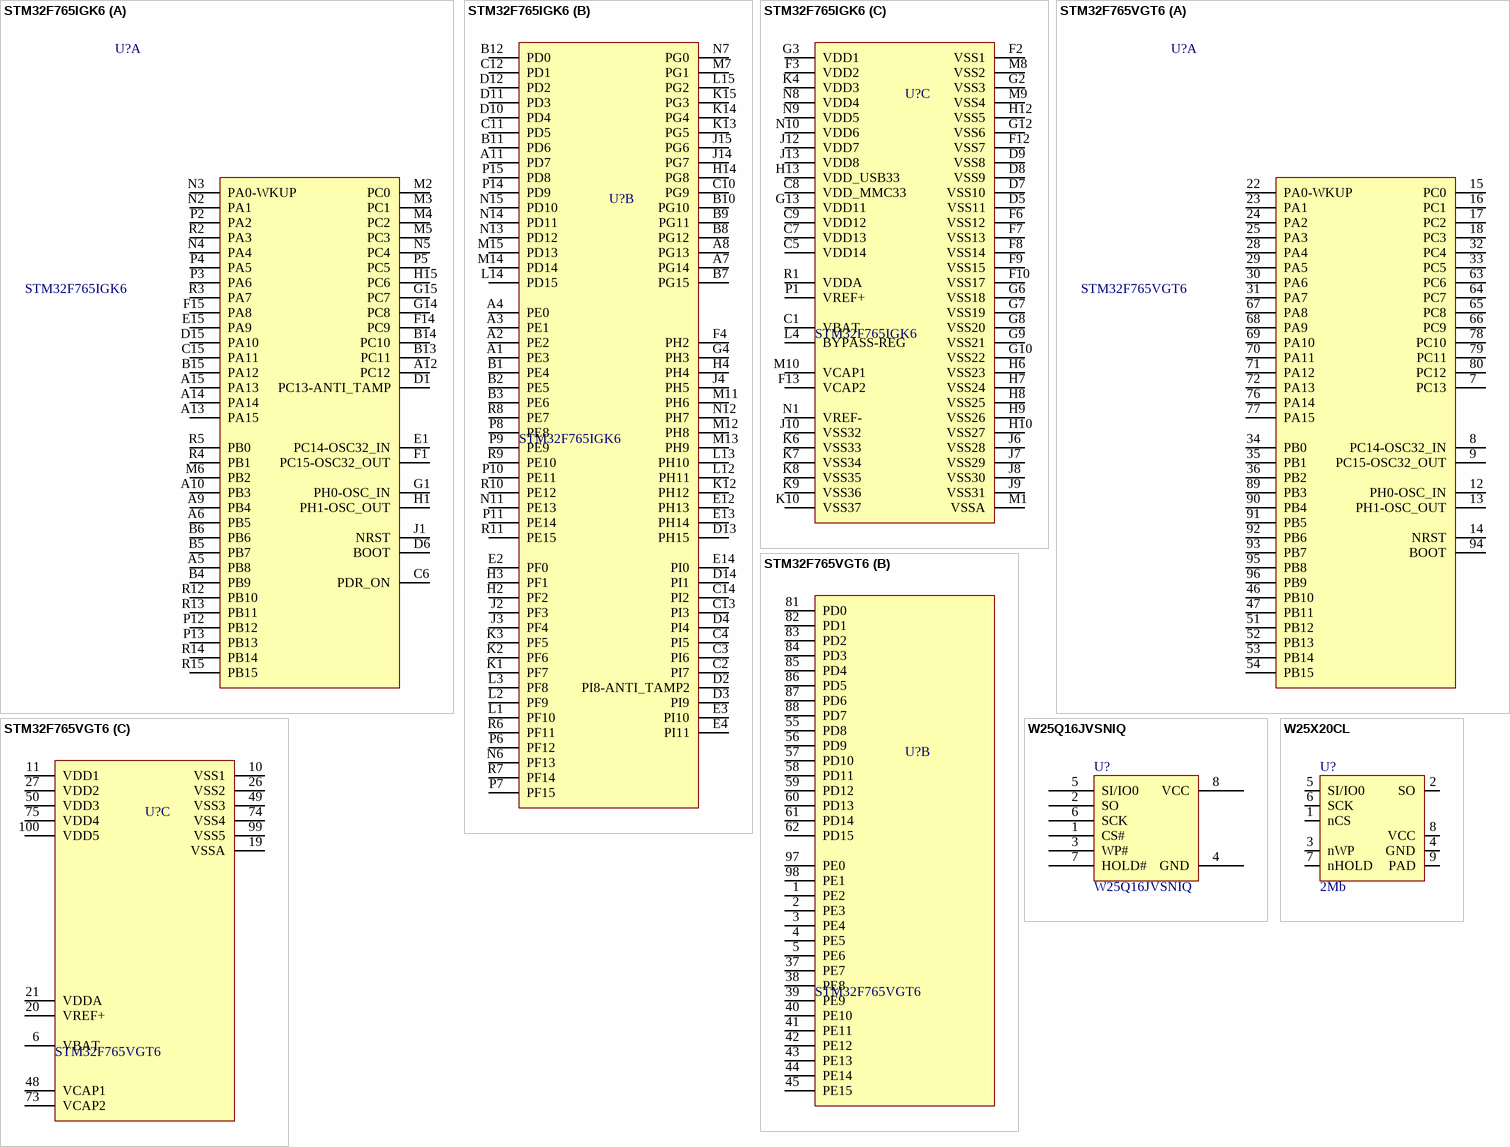
[diagram p3: symbols STM32F765IGK6 to W25X20CL]

## STM32F765IGK6
designator U?
ST; TOLERANCE: -NA-; VALUE: -NA-; MANUFACTURER #: STM32F765IGK6; MANUFACTURER: ST; PART: STM32F765IGK6
footprint BGA176C65P15X15_1000X1000X60 (BGA, 176-Leads, Body 10.00x10.00mmx0.60mm, Pitch 0.65mm)
part A pins: A5 PB8, A6 PB5, A9 PB4, A10 PB3, A12 PC12, A13 PA15, A14 PA14, A15 PA13, B4 PB9, B5 PB7, B6 PB6, B13 PC11, B14 PC10, B15 PA12, C6 PDR_ON, C15 PA11, D1 PC13-ANTI_TAMP, D6 BOOT, D15 PA10, E1 PC14-OSC32_IN, E15 PA9, F1 PC15-OSC32_OUT, F14 PC9, F15 PA8, G1 PH0-OSC_IN, G14 PC8, G15 PC7, H1 PH1-OSC_OUT, H15 PC6, J1 NRST, M2 PC0, M3 PC1, M4 PC2, M5 PC3, M6 PB2, N2 PA1, N3 PA0-WKUP, N4 PA4, N5 PC4, P2 PA2, P3 PA6, P4 PA5, P5 PC5, P12 PB12, P13 PB13, R2 PA3, R3 PA7, R4 PB1, R5 PB0, R12 PB10, R13 PB11, R14 PB14, R15 PB15
part B pins: A1 PE3, A2 PE2, A3 PE1, A4 PE0, A7 PG14, A8 PG13, A11 PD7, B1 PE4, B2 PE5, B3 PE6, B7 PG15, B8 PG12, B9 PG11, B10 PG10, B11 PD6, B12 PD0, C2 PI7, C3 PI6, C4 PI5, C10 PG9, C11 PD5, C12 PD1, C13 PI3, C14 PI2, D2 PI8-ANTI_TAMP2, D3 PI9, D4 PI4, D10 PD4, D11 PD3, D12 PD2, D13 PH15, D14 PI1, E2 PF0, E3 PI10, E4 PI11, E12 PH13, E13 PH14, E14 PI0, F4 PH2, G4 PH3, H2 PF2, H3 PF1, H4 PH4, H14 PG8, J2 PF3, J3 PF4, J4 PH5, J14 PG7, J15 PG6, K1 PF7, K2 PF6, K3 PF5, K12 PH12, K13 PG5, K14 PG4, K15 PG3, L1 PF10, L2 PF9, L3 PF8, L12 PH11, L13 PH10, L14 PD15, L15 PG2, M7 PG1, M11 PH6, M12 PH8, M13 PH9, M14 PD14, M15 PD13, N6 PF13, N7 PG0, N11 PE13, N12 PH7, N13 PD12, N14 PD11, N15 PD10, P6 PF12, P7 PF15, P8 PE8, P9 PE9, P10 PE11, P11 PE14, P14 PD9, P15 PD8, R6 PF11, R7 PF14, R8 PE7, R9 PE10, R10 PE12, R11 PE15
part C pins: C1 VBAT, C5 VDD14, C7 VDD13, C8 VDD_MMC33, C9 VDD12, D5 VSS11, D7 VSS10, D8 VSS9, D9 VSS8, F2 VSS1, F3 VDD2, F6 VSS12, F7 VSS13, F8 VSS14, F9 VSS15, F10 VSS17, F12 VSS7, F13 VCAP2, G2 VSS3, G3 VDD1, G6 VSS18, G7 VSS19, G8 VSS20, G9 VSS21 (power) "1", G10 VSS22 (power) "1", G12 VSS6, G13 VDD11, H6 VSS23 (power) "1", H7 VSS24 (power) "1", H8 VSS25 (power) "1", H9 VSS26 (power) "1", H10 VSS27 (power) "1", H12 VSS5, H13 VDD_USB33, J6 VSS28 (power) "1", J7 VSS29 (power) "1", J8 VSS30 (power) "1", J9 VSS31 (power) "1", J10 VSS32 (power) "1", J12 VDD7, J13 VDD8, K4 VDD3, K6 VSS33 (power) "1", K7 VSS34 (power) "1", K8 VSS35 (power) "1", K9 VSS36 (power) "1", K10 VSS37 (power) "1", L4 BYPASS-REG, M1 VSSA, M8 VSS2, M9 VSS4, M10 VCAP1, N1 VREF-, N8 VDD4, N9 VDD5, N10 VDD6, P1 VREF+, R1 VDDA

## STM32F765VGT6
designator U?
ST; TOLERANCE: -NA-; VALUE: -NA-; MANUFACTURER #: STM32F765VGT6; MANUFACTURER: ST; PART: STM32F765VGT6
footprint LQFP100 14x14 100 pin (TSQFP, 100-Leads, Body 14.00x14.00mm, Pitch 0.50mm, IPC High Density)
part A pins: 7 PC13, 8 PC14-OSC32_IN, 9 PC15-OSC32_OUT, 12 PH0-OSC_IN, 13 PH1-OSC_OUT, 14 NRST, 15 PC0, 16 PC1, 17 PC2, 18 PC3, 22 PA0-WKUP, 23 PA1, 24 PA2, 25 PA3, 28 PA4, 29 PA5, 30 PA6, 31 PA7, 32 PC4, 33 PC5, 34 PB0, 35 PB1, 36 PB2, 46 PB10, 47 PB11, 51 PB12, 52 PB13, 53 PB14, 54 PB15, 63 PC6, 64 PC7, 65 PC8, 66 PC9, 67 PA8, 68 PA9, 69 PA10, 70 PA11, 71 PA12, 72 PA13, 76 PA14, 77 PA15, 78 PC10, 79 PC11, 80 PC12, 89 PB3, 90 PB4, 91 PB5, 92 PB6, 93 PB7, 94 BOOT, 95 PB8, 96 PB9
part B pins: 1 PE2, 2 PE3, 3 PE4, 4 PE5, 5 PE6, 37 PE7, 38 PE8, 39 PE9, 40 PE10, 41 PE11, 42 PE12, 43 PE13, 44 PE14, 45 PE15, 55 PD8, 56 PD9, 57 PD10, 58 PD11, 59 PD12, 60 PD13, 61 PD14, 62 PD15, 81 PD0, 82 PD1, 83 PD2, 84 PD3, 85 PD4, 86 PD5, 87 PD6, 88 PD7, 97 PE0, 98 PE1
part C pins: 6 VBAT, 10 VSS1, 11 VDD1, 19 VSSA, 20 VREF+, 21 VDDA, 26 VSS2, 27 VDD2, 48 VCAP1, 49 VSS3, 50 VDD3, 73 VCAP2, 74 VSS4, 75 VDD4, 99 VSS5, 100 VDD5

## W25Q16JVSNIQ
designator U?
FLASH - NOR Memory IC 16Mb (2M x 8) SPI 133MHz  8-SOIC; MANUFACTURER #: S25FL116K0XMFI043; MANUFACTURER: Winbond; PART: Memory NOR Flash 16Mb; TOLERANCE: -NA-; EE_SPEC: 3.3V; DISTRIBUTOR #: W25Q16JVSNIQ-ND; DISTRIBUTOR: Digikey; PART DESCRIPTION: FLASH - NOR Memory IC 16Mb (2M x 8) SPI 133MHz  8-SOIC; VALUE: 16Mb
footprint S25FL216K0PMFI041 (SOIC, 8-Leads, Body 4.90x3.90mm, Pitch 1.27mm, IPC Medium Density)
pins: 1 CS#, 2 SO, 3 WP#, 4 GND, 5 SI/IO0, 6 SCK, 7 HOLD#, 8 VCC

## W25X20CL
designator U?, comment 2Mb
IC FLASH 2MBIT 104MHZ 8USON; MANUFACTURER #: W25X20CLUXIG TR; MANUFACTURER: Winbond; PART DESCRIPTION: FLASH Memory IC 2Mb (256K x 8) SPI 104MHz 8-USON (2x3); TOLERANCE: -NA-; EE_SPEC: 3.3V; DISTRIBUTOR #: W25X20CLUXIGTR-ND; DISTRIBUTOR: Digikey; PART: IC FLASH 2MBIT 104MHZ 8USON; VALUE: 2Mb
footprint USON8 2X3
pins: 1 nCS, 2 SO, 3 nWP, 4 GND, 5 SI/IO0, 6 SCK, 7 nHOLD, 8 VCC, 9 PAD